# Altium schematic symbol library Diac-PNP.Schlib: 1 symbol
Pins are listed as number, name and electrical type; pins without a type are passive.

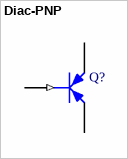
[diagram p0: symbol Diac-PNP]

## Diac-PNP
designator Q?
DIAC
pins: 1 B (in), 2 E, 3 C